# Altium schematic symbol library ST25RU3993_RF_MODULE.SCHLIB: 256 symbols (part 6 of 8)
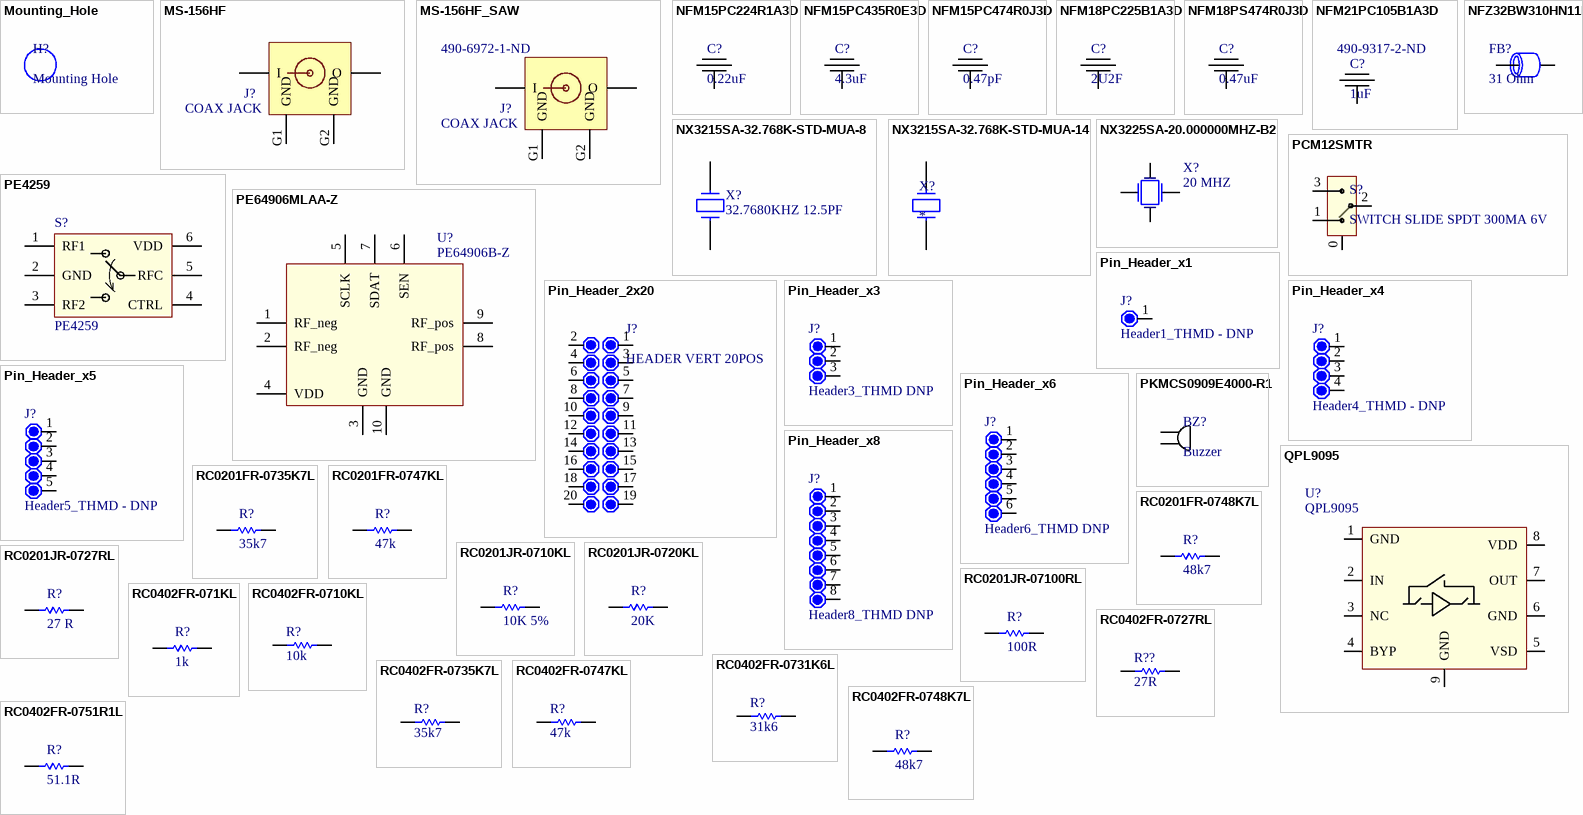
[diagram p11: symbols Mounting_Hole to RC0402FR-0751R1L]

## NFM15PC474R0J3D
designator C?, comment 0.47pF
CAP FEEDTHRU 0.47UF 6.3V 0402; Manufacturer: Murata Electronics North America; Manufacturer Part Number: NFM15PC474R0J3D; Tolerance: ±20%; DC Resistance (DCR) (Max): 30 mOhm; Power (Watts): 0.05W, 1/20W; Supplier 1: Digi-Key; Supplier Part Number 1: 490-16920-1-ND; RoHS: RoHS Compliant; Category: Filters; Stock: 2488; Pricing: 1=0.08, 10=0.052, 25=0.0504, 50=0.0486, 100=0.0471, 250=0.0446, 500=0.03732, 1000=0.02896, 5000=0.02596 (EUR); Packaging: Cut Tape (CT); Part Status: Active; Voltage - Rated: 6.3V; Operating Temperature: -55°C ~ 105°C; Insertion Loss: -; Temperature Coefficient: -; Ratings: -; Mounting Type: Surface Mount; Package / Case: 0402 (1005 Metric); Size / Dimension: 0.039" L x 0.020" W (1.00mm x 0.50mm); Height (Max): 0.020" (0.50mm); Thread Size: -; ComponentLink1URL: http://search.murata.co.jp/Ceramy/image/img/A01X/G101/ENG/NFM15PC474R0J3-01.pdf; ComponentLink1Description: http://search.murata.co.jp/Ceramy/image/img/A01X/G101/ENG/NFM15PC474R0J3-01.pdf; Supplier 2: Digi-Key; Supplier Part Number 2: 311-100NCT-ND; Composition: Thick Film; Features: Moisture Resistant; Supplier Device Package: 0201; Height - Seated (Max): 0.010" (0.26mm); Failure Rate: -; ComponentLink2URL: http://www.yageo.com/documents/recent/PYu-RC_Group_51_RoHS_L_9.pdf; ComponentLink2Description: http://www.yageo.com/documents/recent/PYu-RC_Group_51_RoHS_L_9.pdf
footprint NFM15PC (Feed Through Capacitor)
pins: 1, 2, 3

## NFM18PC225B1A3D
designator C?, comment 2U2F
CAP FEEDTHRU 2.2UF 20% 10V 0603; Manufacturer: Murata Electronics North America; Manufacturer Part Number: NFM18PC225B1A3D; Capacitance: 2.2µF; Current: 4A; DC Resistance (DCR) (Max): 10 mOhm; Supplier 1: Digi-Key; RoHS: RoHS Compliant; Category: Filters; Stock: 3361; Pricing 1: 1=0.25, 10=0.237, 25=0.2256, 50=0.2184, 100=0.2112, 250=0.20028, 500=0.1675, 1000=0.12999 (EUR); Packaging: Cut Tape (CT); Part Status: Active; Tolerance: ±20%; Voltage - Rated: 10V; Operating Temperature: -40°C ~ 85°C; Insertion Loss: -; Temperature Coefficient: -; Ratings: -; Mounting Type: Surface Mount; Package / Case: 0603 (1608 Metric), 3 PC Pad; Size / Dimension: 0.063" L x 0.031" W (1.60mm x 0.80mm); Height (Max): 0.028" (0.70mm); Thread Size: -; ComponentLink1URL: http://search.murata.co.jp/Ceramy/image/img/A01X/G101/ENG/NFM18PC225B1A3-01.pdf; ComponentLink1Description: http://search.murata.co.jp/Ceramy/image/img/A01X/G101/ENG/NFM18PC225B1A3-01.pdf; Supplier Part Number 1: 490-6972-1-ND
footprint NFM18PC (Feed Through Capacitor)
pins: 1, 2, 3

## NFM18PS474R0J3D
designator C?, comment 0.47uF
CAP FEEDTHRU 0.47UF 6.3V 0603; Manufacturer: Murata Electronics North America; Manufacturer Part Number: NFM18PS474R0J3D; Capacitance: 0.47µF; Tolerance: ±20%; Current: 2A; DC Resistance (DCR) (Max): 30 mOhm; Type: Polymer; ESR (Equivalent Series Resistance): 70 mOhm; Lifetime @ Temp.: 1000 Hrs @ 105°C; Ripple Current - High Frequency: 1A @ 100kHz; Surface Mount Land Size: 0.287" L x 0.169" W (7.30mm x 4.30mm); Supplier 1: Digi-Key; RoHS: RoHS Compliant; Category: Filters; Stock: 926; Pricing 1: 1=0.14, 10=0.132, 25=0.1264, 50=0.122, 100=0.1181, 250=0.11192, 500=0.09362, 1000=0.07267 (EUR); Packaging: Cut Tape (CT); Part Status: Active; Voltage - Rated: 6.3V; Operating Temperature: -55°C ~ 125°C; Insertion Loss: -; Temperature Coefficient: -; Ratings: -; Mounting Type: Surface Mount; Package / Case: 0603 (1608 Metric), 3 PC Pad; Size / Dimension: 0.063" L x 0.031" W (1.60mm x 0.80mm); Height (Max): 0.028" (0.70mm); Thread Size: -; ComponentLink1URL: http://search.murata.co.jp/Ceramy/image/img/A01X/G101/ENG/NFM18PS474R0J3-01.pdf; ComponentLink1Description: http://search.murata.co.jp/Ceramy/image/img/A01X/G101/ENG/NFM18PS474R0J3-01.pdf; Supplier Part Number 1: 490-6975-1-ND; Supplier 2: Digi-Key; Pricing 2: 1=1.25, 10=0.984, 100=0.7379, 500=0.55756, 1000=0.49196 (EUR); Applications: General Purpose; Ripple Current - Low Frequency: -; Lead Spacing: -; Height - Seated (Max): 0.075" (1.90mm); ComponentLink2URL: http://www.murata.com/~/media/webrenewal/support/library/catalog/products/capacitor/polymer/c90e.ashx; ComponentLink2Description: http://www.murata.com/~/media/webrenewal/support/library/catalog/products/capacitor/polymer/c90e.ashx; Supplier Part Number 2: 490-5481-1-ND; Supplier 3: Digi-Key; Supplier Part Number 3: 490-13393-1-ND; Pricing: 1=0.09, 10=0.08, 25=0.0756, 50=0.0734, 100=0.0709, 250=0.06728, 500=0.05626, 1000=0.04367, 5000=0.03915 (EUR); ComponentLink3URL: http://search.murata.co.jp/Ceramy/image/img/A01X/G101/ENG/NFM15PC435R0E3-01.pdf; ComponentLink3Description: http://search.murata.co.jp/Ceramy/image/img/A01X/G101/ENG/NFM15PC435R0E3-01.pdf
footprint NFM18PS (Feed Through Capacitor)
pins: 1, 2, 3

## NFM21PC105B1A3D
designator C?, comment 1uF  Supplier Part Number 4: 490-9317-2-ND
CAP FEEDTHRU 1UF 20% 10V 0805; Manufacturer: Murata Electronics North America; Manufacturer Part Number: NFM21PC105B1A3D; Capacitance: 1µF; Current: 4A; DC Resistance (DCR) (Max): 20 mOhm; Coupler Type: Standard; Frequency: 1.7GHz ~ 2.2GHz; Coupling Factor: 19.9dB; Power - Max: 2W; Return Loss: 22.5dB; Number of Lines: 1; Impedance @ Frequency: 31 Ohm @ 1MHz; Current Rating (Max): 1.2A; Supplier 1: Digi-Key; RoHS: RoHS Compliant; Category: Filters; Stock: 68166; Pricing 1: 1=0.19, 10=0.182, 25=0.1736, 50=0.168, 100=0.1624, 250=0.15396, 500=0.12878, 1000=0.09994 (EUR); Packaging: Cut Tape (CT); Part Status: Active; Tolerance: ±20%; Voltage - Rated: 10V; Operating Temperature: -40°C ~ 85°C; Insertion Loss: -; Temperature Coefficient: -; Ratings: -; Mounting Type: Surface Mount; Package / Case: 0805 (2012 Metric), 3 PC Pad; Size / Dimension: 0.079" L x 0.049" W (2.00mm x 1.25mm); Height (Max): 0.037" (0.95mm); Thread Size: -; ComponentLink1URL: http://search.murata.co.jp/Ceramy/image/img/A01X/G101/ENG/NFM21PC105B1A3-01.pdf; ComponentLink1Description: http://search.murata.co.jp/Ceramy/image/img/A01X/G101/ENG/NFM21PC105B1A3-01.pdf; Supplier Part Number 1: 490-6980-1-ND; Supplier 2: Digi-Key; Pricing 2: 1=0.19, 10=0.133, 100=0.0671, 500=0.0459, 1000=0.04061, 2500=0.03884, 5000=0.03531 (EUR); Features: Low ESL (Reverse Geometry); Applications: Bypass, Decoupling; Height - Seated (Max): -; Thickness (Max): 0.014" (0.35mm); Lead Spacing: -; Lead Style: -; ComponentLink2URL: http://www.murata.com/~/media/webrenewal/support/library/catalog/products/capacitor/mlcc/c02e.ashx; ComponentLink2Description: http://www.murata.com/~/media/webrenewal/support/library/catalog/products/capacitor/mlcc/c02e.ashx; Supplier Part Number 2: 490-4310-1-ND; Supplier 3: Digi-Key; Supplier Part Number 3: 1173-1088-1-ND; Pricing: 1=0.75, 10=0.663, 25=0.5988, 100=0.524, 250=0.45988, 500=0.4064 (EUR); Isolation: -; Supplier Device Package: 0805 (2012 Metric); ComponentLink3URL: https://www.anaren.com/sites/default/files/DC1722J5020AHF_Datasheet_RevC.pdf; ComponentLink3Description: https://www.anaren.com/sites/default/files/DC1722J5020AHF_Datasheet_RevC.pdf; Supplier 4: Digi-Key; Pricing 4: 2000=0.15448 (EUR); Filter Type: -; ComponentLink4URL: http://www.murata.com/en-us/products/productdata/8796734717982/ENFJ0003.pdf; ComponentLink4Description: http://www.murata.com/en-us/products/productdata/8796734717982/ENFJ0003.pdf
footprint NFM21PC (Feed Through Capacitor)
pins: 1, 2, 3

## NFZ32BW310HN11L
designator FB?, comment 31 Ohm
FERRITE BEAD 31 OHM 2SMD 1LN; Manufacturer: Murata Electronics North America; Manufacturer Part Number: NFZ32BW310HN11L; Current Rating (Max): 1.2A; DC Resistance (DCR) (Max): 186 mOhm; Supplier 1: Digi-Key; Supplier Part Number 1: 490-9317-1-ND; RoHS: RoHS Compliant; Category: Filters; Stock: 0; Pricing: 1=0 (EUR); Packaging: Cut Tape (CT); Part Status: Discontinued at Digi-Key; Filter Type: -; Ratings: -; Operating Temperature: -40°C ~ 125°C; Package / Case: 2-SMD, Flat Lead; Mounting Type: Surface Mount; Height (Max): 0.067" (1.70mm); Size / Dimension: 0.126" L x 0.098" W (3.20mm x 2.50mm); ComponentLink1URL: https://www.murata.com/en-us/products/productdata/8796734717982/ENFJ0003.pdf; ComponentLink1Description: https://www.murata.com/en-us/products/productdata/8796734717982/ENFJ0003.pdf
footprint NFZ32BW310HN11 (Chip Inductor, 2-Leads, Body 3.20x2.50mm, IPC Medium Density)
pins: 1, 2

## NX3215SA-32.768K-STD-MUA-8
designator X?, comment 32.7680KHZ 12.5PF
CRYSTAL 32.7680KHZ 12.5PF SMD; Manufacturer 1: NDK; Manufacturer Part Number 1: NX3215SA-32.768K-STD-MUA-8; Frequency: 32.768kHz; Frequency Tolerance: ±20ppm; ESR (Equivalent Series Resistance): 70 kOhm; Operating Mode: Fundamental; Millicandela Rating: 18mcd; Exact Component Match: yes; Supplier 1: Digi-Key; Supplier Part Number 1: 644-1156-2-ND; RoHS: RoHS Compliant; Category: Crystals, Oscillators, Resonators; Stock 1: 39000; Pricing 1: 3000=0.43075, 6000=0.41589, 15000=0.40104 (EUR); Packaging: Tape & Reel (TR); Part Status: Active; Type: kHz Crystal (Tuning Fork); Frequency Stability: -; Load Capacitance: 12.5pF; Operating Temperature: -40°C ~ 85°C; Ratings: -; Mounting Type: Surface Mount; Size / Dimension: 0.126" L x 0.059" W (3.20mm x 1.50mm); Height: 0.035" (0.90mm); ComponentLink1URL: http://www.ndk.com/images/products/catalog/c_NX3215SA-STD-MUA-14_e.pdf; ComponentLink1Description: http://www.ndk.com/images/products/catalog/c_NX3215SA-STD-MUA-14_e.pdf; Color: Blue; Features: -; Supplier Device Package: 0402 (1005 Metric); Height (Max): 0.25mm; Manufacturer: NDK; Manufacturer Part Number: NX3215SA-32.768K-STD-MUA-8
footprint NX3215SA-32.768K-STD-MUA-8 (g 32,768kHz, ±20ppm Kristall, 12,5pF, 70 kOhm)
pins: 1, 2

## NX3215SA-32.768K-STD-MUA-14
designator X?
CRYSTAL 32.7680KHZ 6PF SMD; Manufacturer: NDK America, Inc.; Manufacturer Part Number: NX3215SA-32.768K-STD-MUA-14; Frequency: 32.768kHz; Frequency Tolerance: ±20ppm; ESR (Equivalent Series Resistance): 70 kOhm; Operating Mode: Fundamental; Supplier 1: Digi-Key; Supplier Part Number 1: 644-1171-1-ND; RoHS: RoHS Compliant; Category: Crystals, Oscillators, Resonators; Stock: 41587; Pricing: 1=0.8, 10=0.709, 50=0.6624, 100=0.5854, 500=0.5546, 1000=0.46217 (EUR); Packaging: Cut Tape (CT); Part Status: Active; Type: kHz Crystal (Tuning Fork); Frequency Stability: -; Load Capacitance: 6pF; Operating Temperature: -40°C ~ 85°C; Ratings: -; Mounting Type: Surface Mount; Package / Case: 2-SMD, No Lead; Size / Dimension: 0.126" L x 0.059" W (3.20mm x 1.50mm); Height - Seated (Max): 0.035" (0.90mm); ComponentLink1URL: http://www.ndk.com/images/products/catalog/c_NX3215SA-STD-MUA-14_e.pdf; ComponentLink1Description: http://www.ndk.com/images/products/catalog/c_NX3215SA-STD-MUA-14_e.pdf
footprint NX3215SA-32.768K-STD-MUA-8 (g 32,768kHz, ±20ppm Kristall, 12,5pF, 70 kOhm)
pins: 1, 2

## NX3225SA-20.000000MHZ-B2
designator X?, comment 20 MHZ
CRYSTAL 20.0000MHZ 7.2PF SMD; Manufacturer: NDK; Manufacturer Part Number: NX3225SA-20.000000MHZ-B2; Frequency: 20MHz; Frequency Stability: ±15ppm; Frequency Tolerance: ±10ppm; ESR (Equivalent Series Resistance): 80 Ohm; Operating Mode: Fundamental; Supplier 1: Digi-Key; Supplier Part Number 1: 644-1098-1-ND; RoHS: RoHS Compliant; Category: Crystals, Oscillators, Resonators; Stock 1: 1453; Pricing 1: 1=0.88, 10=0.779, 50=0.7286, 100=0.6439, 500=0.61002, 1000=0.50836 (EUR); Packaging: Cut Tape (CT); Part Status: Active; Type: MHz Crystal; Load Capacitance: 7.2pF; Operating Temperature: -30°C ~ 85°C; Ratings: -; Mounting Type: Surface Mount; Package / Case: 4-SMD, No Lead; Size / Dimension: 0.126" L x 0.098" W (3.20mm x 2.50mm); Height - Seated (Max): 0.028" (0.70mm); ComponentLink1URL: http://media.digikey.com/pdf/Data%20Sheets/NDK%20PDFs/NX3225SA-20.000000MHz-B2.pdf; ComponentLink1Description: http://media.digikey.com/pdf/Data%20Sheets/NDK%20PDFs/NX3225SA-20.000000MHz-B2.pdf
footprint NX3225SA (20 MHz Crystal Oscillator)
pins: 1, 2 GND, 3, 4 GND

## PCM12SMTR
designator S?, comment SWITCH SLIDE SPDT 300MA 6V
C & K COMPONENTS         PCM12SMTR             Slide Switch, SPDT, On-On, SMD, PCM Series, 300 mA; Manufacturer: ITT C&K; Mechanical Life: 10000Cycles; Actuator Material: Nylon,Polyamide; Contact Resistance: 70mR; Insulation Resistance: 100mR; Switch Travel: 1.5mm; Actuator Type: Standard; Supplier 1: Digi-Key; Supplier Part Number 1: 401-2016-1-ND; Manufacturer Part Number: PCM12SMTR; Stock: 53689; Pricing: 1=0.91, 10=0.87, 25=0.8524, 50=0.7616, 100=0.7253, 250=0.7072, 500=0.5984, 1000=0.5803 (USD); RoHS: Yes; Mount: Surface Mount; Contact Material: Copper,Copper Alloy,Silver; Contact Plating: Silver; Min Operating Temperature: -20°C; Max Operating Temperature: 85°C; Throw Configuration: SPDT; Max Voltage Rating (DC): 6V; Termination: Gull Wing; Voltage Rating (AC): 6V; Package Quantity: 1; Packaging: Tape and Reel; Voltage Rating (DC): 6V; Max Current Rating: 300mA; Contact Current Rating: 300mA; Current Rating: 300mA; Orientation: Right Angle; Switch Function: On-On; Length: 7.7mm; Width: 6.7mm; Depth: 5mm; Actuator Length: 1.5mm; REACH SVHC: No SVHC; Lead Free: Lead Free; ComponentLink1URL: https://www.ckswitches.com/media/1424/pcm.pdf?src-supplier=Digi-Key; ComponentLink1Description: https://www.ckswitches.com/media/1424/pcm.pdf?src-supplier=Digi-Key; ComponentLink2URL: https://products.avnet.com/shop/en/asia/switches-and-relays/switches/slide-switch/www.ckswitches.com/media/1424/pcm.pdf?src-supplier=Avnet+Asia; ComponentLink2Description: https://products.avnet.com/shop/en/asia/switches-and-relays/switches/slide-switch/www.ckswitches.com/media/1424/pcm.pdf?src-supplier=Avnet+Asia; ComponentLink3URL: http://www1.futureelectronics.com/doc/C%20&%20K%20COMPONENTS/PCM12SMTR.pdf?src-supplier=Future+Electronics; ComponentLink3Description: http://www1.futureelectronics.com/doc/C%20&%20K%20COMPONENTS/PCM12SMTR.pdf?src-supplier=Future+Electronics; ComponentLink4URL: http://www.farnell.com/datasheets/1789487.pdf?src-supplier=Onlinecomponents.com; ComponentLink4Description: http://www.farnell.com/datasheets/1789487.pdf?src-supplier=Onlinecomponents.com; ComponentLink5URL: http://www.farnell.com/datasheets/1789487.pdf?src-supplier=Element14; ComponentLink5Description: http://www.farnell.com/datasheets/1789487.pdf?src-supplier=Element14; ComponentLink6URL: http://www.farnell.com/datasheets/1789487.pdf?src-supplier=Mouser; ComponentLink6Description: http://www.farnell.com/datasheets/1789487.pdf?src-supplier=Mouser
footprint SW_PCM12SMTR
pins: 0, 1, 2, 3

## PE4259
designator S?
IC RF SWITCH SPDT 50 OHM SC70-6; Manufacturer: Peregrine Semiconductor; Manufacturer Part Number: 4259-63; Frequency - Lower: 10MHz; Frequency - Upper: 3GHz; Isolation @ Frequency: 20dB @ 2GHz (typ); Insertion Loss @ Frequency: 0.5dB @ 2GHz; IIP3: 55dBm (typ); Topology: Reflective; P1dB: 29dBm (typ) IP1dB; Impedance: 50 Ohm; Voltage - Supply: 1.8 V ~ 3.3 V; RF Type: General Purpose; Supplier 1: Digi-Key; RoHS: RoHS Compliant; Category: RF/IF and RFID; Stock: 341453; Pricing 1: 1=0.61, 250=0.49088 (EUR); Packaging: Cut Tape (CT); Part Status: Active; Circuit: SPDT; Features: Single/Dual Line Control; Operating Temperature: -40°C ~ 85°C; Package / Case: 6-TSSOP, SC-88, SOT-363; Supplier Device Package: SC-70-6; ComponentLink1URL: http://www.psemi.com/pdf/datasheets/pe4259ds.pdf; ComponentLink1Description: http://www.psemi.com/pdf/datasheets/pe4259ds.pdf; Supplier Part Number 1: 1046-1011-1-ND
footprint PE4259 (SPDT High Power UltraCMOS DC – 3.0 GHz RF Switch)
pins: 1 RF1, 2 GND, 3 RF2, 4 CTRL, 5 RFC, 6 VDD
1 alternate drawing of the same symbol

## PE64906MLAA-Z
designator U?, comment PE64906B-Z
IC RF DTC 100-3000MHZ 10QFN; Manufacturer: Peregrine Semiconductor; Function: Digitally Tunable Capacitor; Frequency: 100MHz ~ 3GHz; RF Type: General Purpose; Secondary Attributes: SPI Interface; Exact Component Match: yes; Frequency - Lower: 500MHz; Isolation @ Frequency: 20dB @ 5.8GHz (typ); Insertion Loss @ Frequency: 0.8dB @ 5.8GHz; IIP3: 57dBm (typ); Circuit: SPDT; P1dB: 36dBm; Impedance: 50 Ohm; Voltage - Supply: 2.5 V ~ 5 V; Manufacturer Part Number: PE64906B-Z; RoHS: RoHS Compliant; Category: RF/IF and RFID; Packaging: Cut Tape (CT); Package / Case: 10-UFQFN Exposed Pad; ComponentLink1URL: http://www.psemi.com/pdf/datasheets/pe64906ds.pdf; ComponentLink1Description: http://www.psemi.com/pdf/datasheets/pe64906ds.pdf; Topology: -; Features: -; Operating Temperature: -40°C ~ 85°C; ComponentLink2URL: http://www.skyworksinc.com/uploads/documents/SKY13431_374LF_201649C.pdf; ComponentLink2Description: http://www.skyworksinc.com/uploads/documents/SKY13431_374LF_201649C.pdf
footprint PE62304 (Digitally Tunable Capacitor for GSM/WCDMA)
pins: 1 RF_neg, 2 RF_neg, 3 GND, 4 VDD, 5 SCLK, 6 SEN, 7 SDAT, 8 RF_pos, 9 RF_pos, 10 GND

## Pin_Header_2x20
designator J?, comment HEADER VERT 20POS
CONN HEADER VERT 20POS GOLD; Manufacturer: On Shore Technology Inc.; Manufacturer Part Number: 302-S201; Pitch - Mating: 0.100" (2.54mm); Number of Positions: 20; Number of Positions Loaded: All; Style: Board to Cable/Wire; Shrouding: Shrouded - 4 Wall; Contact Length - Post: 0.122" (3.10mm); Material Flammability Rating: UL94 V-0; Current Rating: 3A; Voltage Rating: 250V; Supplier 1: Digi-Key; Supplier Part Number 1: ED10524-ND; RoHS: RoHS Compliant; Category: Connectors, Interconnects; Stock: 57534; Pricing: 1=0.41, 10=0.392, 160=0.27425, 640=0.23503, 1120=0.19587, 5120=0.16788, 10080=0.15669 (EUR); Packaging: Tray; Part Status: Active; Connector Type: Header; Contact Type: Male Pin; Number of Rows: 2; Row Spacing - Mating: 0.100" (2.54mm); Mounting Type: Through Hole; Termination: Solder; Fastening Type: Push-Pull; Contact Length - Mating: -; Overall Contact Length: -; Insulation Height: 0.358" (9.10mm); Contact Shape: Square; Contact Finish - Mating: Gold; Contact Finish Thickness - Mating: Flash; Contact Finish - Post: Gold; Contact Material: Brass; Insulation Material: Polyester, Glass Filled; Features: Keying Slot; Operating Temperature: -40°C ~ 105°C; Ingress Protection: -; Insulation Color: Black; Mated Stacking Heights: -; Contact Finish Thickness - Post: 1.25µin (0.032µm); Applications: -; ComponentLink1URL: http://www.on-shore.com/wp-content/uploads/2018/04/302-SXX1.pdf; ComponentLink1Description: http://www.on-shore.com/wp-content/uploads/2018/04/302-SXX1.pdf
footprint Model Name (Footprint not found)
footprint PLUG_THMD_STRIP_2X10
pins: 1, 2, 3, 4, 5, 6, 7, 8, 9, 10, 11, 12, 13, 14, 15, 16, 17, 18, 19, 20

## Pin_Header_x1
designator J?, comment Header1_THMD - DNP
Pin_Header_x1; Manufacturer: Wurth Electronics Inc.; Manufacturer Part Number: 61300211121; Connector Type: Header; Pitch - Mating: 0.100" (2.54mm); Number of Positions: 2; Number of Positions Loaded: All; Style: Board to Board or Cable; Shrouding: Unshrouded; Contact Length - Mating: 0.236" (6.00mm); Contact Length - Post: 0.118" (3.00mm); Overall Contact Length: 0.454" (11.54mm); Material Flammability Rating: UL94 V-0; Current Rating: 3A; Voltage Rating: 250V; Supplier 1: Digi-Key; Supplier Part Number 1: 732-5315-ND; RoHS: RoHS Compliant; Category: Connectors, Interconnects; Stock: 78407; Pricing: 1=0.12, 10=0.095, 25=0.0788, 50=0.0662, 100=0.06, 1000=0.05462 (EUR); Packaging: Bulk; Part Status: Active; Contact Type: Male Pin; Number of Rows: 1; Row Spacing - Mating: -; Mounting Type: Through Hole; Termination: Solder; Fastening Type: Push-Pull; Insulation Height: 0.100" (2.54mm); Contact Shape: Square; Contact Finish - Mating: Gold; Contact Finish Thickness - Mating: -; Contact Finish - Post: -; Contact Material: Copper Alloy; Insulation Material: Polybutylene Terephthalate (PBT); Features: -; Operating Temperature: -40°C ~ 125°C; Ingress Protection: -; Insulation Color: Black; Mated Stacking Heights: -; Contact Finish Thickness - Post: -; Applications: -; ComponentLink1URL: http://katalog.we-online.de/em/datasheet/6130xx11121.pdf; ComponentLink1Description: http://katalog.we-online.de/em/datasheet/6130xx11121.pdf
footprint PLUG_THMD_STRIP1
footprint PLUG_THMD_STRIP1 - 90°
footprint PLUG_THMD_STRIP1
pins: 1

## Pin_Header_x3
designator J?, comment Header3_THMD DNP
Pin_Header_x3; Manufacturer: Wurth Electronics Inc.; Manufacturer Part Number: 61300311121; Connector Type: Header; Pitch - Mating: 0.100" (2.54mm); Number of Positions: 3; Number of Positions Loaded: All; Style: Board to Board or Cable; Shrouding: Unshrouded; Contact Length - Mating: 0.236" (6.00mm); Contact Length - Post: 0.118" (3.00mm); Overall Contact Length: 0.454" (11.54mm); Material Flammability Rating: UL94 V-0; Current Rating: 3A; Voltage Rating: 250V; Supplier 1: Digi-Key; Supplier Part Number 1: 732-5316-ND; RoHS: RoHS Compliant; Category: Connectors, Interconnects; Stock: 35601; Pricing: 1=0.12, 10=0.095, 25=0.0788, 50=0.0662, 100=0.06, 1000=0.05462 (EUR); Packaging: Bulk; Part Status: Active; Contact Type: Male Pin; Number of Rows: 1; Row Spacing - Mating: -; Mounting Type: Through Hole; Termination: Solder; Fastening Type: Push-Pull; Insulation Height: 0.100" (2.54mm); Contact Shape: Square; Contact Finish - Mating: Gold; Contact Finish Thickness - Mating: -; Contact Finish - Post: -; Contact Material: Copper Alloy; Insulation Material: Polybutylene Terephthalate (PBT); Features: -; Operating Temperature: -40°C ~ 125°C; Ingress Protection: -; Insulation Color: Black; Mated Stacking Heights: -; Contact Finish Thickness - Post: -; Applications: -; ComponentLink1URL: http://katalog.we-online.de/em/datasheet/6130xx11121.pdf; ComponentLink1Description: http://katalog.we-online.de/em/datasheet/6130xx11121.pdf
footprint PLUG_THMD_STRIP3
footprint PLUG_THMD_STRIP3 - 90°
footprint PLUG_THMD_STRIP3
pins: 1, 2, 3

## Pin_Header_x4
designator J?, comment Header4_THMD - DNP
Pin_Header_x4; Manufacturer: TE Connectivity AMP Connectors; Manufacturer Part Number: 3-644456-4; Connector Type: Header; Pitch - Mating: 0.100" (2.54mm); Number of Positions: 4; Number of Positions Loaded: All; Style: Board to Cable/Wire; Shrouding: Unshrouded; Contact Length - Mating: 0.295" (7.49mm); Contact Length - Post: 0.110" (2.79mm); Overall Contact Length: 0.505" (12.83mm); Material Flammability Rating: UL94 V-0; Current Rating: Varies by Wire Gauge; Voltage Rating: 250VAC; Supplier 1: Digi-Key; Supplier Part Number 1: A31114-ND; RoHS: RoHS Compliant; Category: Connectors, Interconnects; Stock: 4288; Pricing: 1=0.24, 10=0.23, 100=0.161, 500=0.13806, 1000=0.11504, 5000=0.09861, 10000=0.09203 (EUR); Packaging: Bulk; Part Status: Active; Contact Type: Male Pin; Number of Rows: 1; Row Spacing - Mating: -; Mounting Type: Through Hole; Termination: Solder; Fastening Type: -; Insulation Height: 0.100" (2.54mm); Contact Shape: Square; Contact Finish - Mating: Tin; Contact Finish Thickness - Mating: 150µin (3.81µm); Contact Finish - Post: Tin; Contact Material: Copper Alloy; Insulation Material: Thermoplastic; Features: -; Operating Temperature: -55°C ~ 105°C; Ingress Protection: -; Insulation Color: Natural; Mated Stacking Heights: -; Contact Finish Thickness - Post: 150µin (3.81µm); Applications: General Purpose; ComponentLink1URL: http://www.te.com/commerce/DocumentDelivery/DDEController?Action=srchrtrv&DocNm=644456&DocType=Customer+Drawing&DocLang=English; ComponentLink1Description: http://www.te.com/commerce/DocumentDelivery/DDEController?Action=srchrtrv&DocNm=644456&DocType=Customer+Drawing&DocLang=English
footprint PLUG_THMD_STRIP4 - 2rows
footprint PLUG_THMD_STRIP4 - 2rows-90°
footprint PLUG_THMD_STRIP4
footprint PLUG_THMD_STRIP4 - 90°
footprint PLUG_THMD_STRIP4 - 2rows_FEMALE_BOT (FEMALE BOTTOM MOUNT - silk Top)
pins: 1, 2, 3, 4

## Pin_Header_x5
designator J?, comment Header5_THMD - DNP
Pin_Header_x5
footprint PLUG_THMD_STRIP5
footprint PLUG_THMD_STRIP5 - 90°
footprint PLUG_THMD_STRIP5_FEMALE_BOT (FEMALE BOTTOM MOUNT - silk Top)
pins: 1, 2, 3, 4, 5

## Pin_Header_x6
designator J?, comment Header6_THMD DNP
Pin_Header_x6; Manufacturer: Amphenol FCI; Manufacturer Part Number: 68000-406HLF; Connector Type: Header; Pitch - Mating: 0.100" (2.54mm); Style: Board to Board; Shrouding: Unshrouded; Number of Positions: 6; Number of Positions Loaded: All; Contact Length - Mating: 0.230" (5.84mm); Contact Length - Post: 0.095" (2.41mm); Overall Contact Length: 0.425" (10.80mm); Material Flammability Rating: UL94 V-0; Supplier 1: Digi-Key; Supplier Part Number 1: 609-3263-ND; RoHS: RoHS Compliant; Category: Connectors, Interconnects; Stock: 22083; Pricing: 1=0.21, 10=0.198, 100=0.1371, 500=0.11596, 1000=0.09488, 5000=0.08434, 10000=0.07643 (EUR); Packaging: Bulk; Part Status: Active; Contact Type: Male Pin; Number of Rows: 1; Row Spacing - Mating: -; Mounting Type: Through Hole; Termination: Solder; Fastening Type: Push-Pull; Insulation Height: 0.100" (2.54mm); Contact Shape: Square; Contact Finish - Mating: Tin; Contact Finish Thickness - Mating: 100µin (2.54µm); Contact Finish - Post: Tin; Contact Material: Phosphor Bronze; Insulation Material: -; Features: -; Operating Temperature: -; Ingress Protection: -; Insulation Color: Black; Current Rating: -; Voltage Rating: -; Mated Stacking Heights: -; Contact Finish Thickness - Post: -; Applications: -; ComponentLink1URL: http://portal.fciconnect.com/Comergent//fci/drawing/68000.pdf; ComponentLink1Description: http://portal.fciconnect.com/Comergent//fci/drawing/68000.pdf
footprint PLUG_THMD_STRIP6
footprint PLUG_THMD_STRIP6 - 2rows
footprint PLUG_THMD_STRIP6 - 2rows-90°
footprint PLUG_THMD_STRIP6 - 90°
footprint PLUG_THMD_STRIP6
pins: 1, 2, 3, 4, 5, 6

## Pin_Header_x8
designator J?, comment Header8_THMD DNP
Pin_Header_x8; Manufacturer: TE Connectivity AMP Connectors; Manufacturer Part Number: 3-644456-8; Connector Type: Header; Pitch - Mating: 0.100" (2.54mm); Number of Positions: 8; Number of Positions Loaded: All; Style: Board to Cable/Wire; Shrouding: Unshrouded; Contact Length - Mating: 0.295" (7.49mm); Contact Length - Post: 0.110" (2.79mm); Overall Contact Length: 0.505" (12.83mm); Material Flammability Rating: UL94 V-0; Current Rating: Varies by Wire Gauge; Voltage Rating: 250VAC; Supplier 1: Digi-Key; Supplier Part Number 1: A31118-ND; RoHS: RoHS Compliant; Category: Connectors, Interconnects; Stock: 4691; Pricing: 1=0.42, 10=0.394, 100=0.3024, 500=0.26296, 1000=0.21694, 5000=0.19064, 10000=0.17749 (EUR); Packaging: Bulk; Part Status: Active; Contact Type: Male Pin; Number of Rows: 1; Row Spacing - Mating: -; Mounting Type: Through Hole; Termination: Solder; Fastening Type: -; Insulation Height: 0.100" (2.54mm); Contact Shape: Square; Contact Finish - Mating: Tin; Contact Finish Thickness - Mating: 150µin (3.81µm); Contact Finish - Post: Tin; Contact Material: Copper Alloy; Insulation Material: Thermoplastic; Features: -; Operating Temperature: -55°C ~ 105°C; Ingress Protection: -; Insulation Color: Natural; Mated Stacking Heights: -; Contact Finish Thickness - Post: 150µin (3.81µm); Applications: General Purpose; ComponentLink1URL: http://www.te.com/commerce/DocumentDelivery/DDEController?Action=srchrtrv&DocNm=644456&DocType=Customer+Drawing&DocLang=English; ComponentLink1Description: http://www.te.com/commerce/DocumentDelivery/DDEController?Action=srchrtrv&DocNm=644456&DocType=Customer+Drawing&DocLang=English; Supplier 2: Digi-Key; Supplier Part Number 2: ED10524-ND; ComponentLink2URL: http://www.on-shore.com/wp-content/uploads/2018/04/302-SXX1.pdf; ComponentLink2Description: http://www.on-shore.com/wp-content/uploads/2018/04/302-SXX1.pdf
footprint PLUG_THMD_STRIP8
footprint PLUG_THMD_STRIP6 - 2rows
footprint PLUG_THMD_STRIP6 - 2rows-90°
footprint PLUG_THMD_STRIP6 - 90°
footprint PLUG_THMD_STRIP8
pins: 1, 2, 3, 4, 5, 6, 7, 8

## PKMCS0909E4000-R1
designator BZ?, comment Buzzer
AUDIO PIEZO TRANSDUCER 12.5V SMD; Manufacturer: Murata Electronics North America; Manufacturer Part Number: PKMCS0909E4000-R1; Driver Circuitry: Transducer, Externally Driven; Input Type: Zero-Peak Signal; Voltage - Rated: 1.5V; Voltage Range: 12.5V (Max); Frequency: 4kHz; Operating Mode: Single Tone; Sound Pressure Level (SPL): 65dB @ 1.5V, 10cm; Port Location: Side; Supplier 1: Digi-Key; Supplier Part Number 1: 490-9647-1-ND; RoHS: RoHS Compliant; Category: Audio Products; Stock: 15302; Pricing: 1=1.66, 10=1.45, 25=1.1276, 50=1.02, 100=0.9127, 250=0.88584, 500=0.85898, 1000=0.77846 (EUR); Packaging: Cut Tape (CT); Part Status: Active; Technology: Piezo; Duration: -; Current - Supply: -; Operating Temperature: -40°C ~ 85°C; Approvals: -; Ratings: -; Mounting Type: Surface Mount; Termination: Solder Pads; Size / Dimension: 0.354" L x 0.354" W (9.00mm x 9.00mm); Height - Seated (Max): 0.118" (3.00mm); ComponentLink1URL: http://www.murata.com/~/media/webrenewal/products/sound/sounder/vppt-buzj083-d.ashx; ComponentLink1Description: http://www.murata.com/~/media/webrenewal/products/sound/sounder/vppt-buzj083-d.ashx
footprint PKMCS0909E Series (Murata Sounder)
pins: 1, 2

## QPL9095
designator U?
.7-1.0GHz Ultra Low-Noise, Bypass LNA; Manufacturer: Qorvo; Supplier 1: RFMW; Supplier Part Number 1: QPL9095; Manufacturer Part Number: QPL9095; Stock: 0; Pricing: 250=3.41 ($)
footprint QPL9095 (Ultra Low-Noise, Bypass LNA)
pins: 1 GND, 2 IN, 3 NC, 4 BYP, 5 VSD, 6 GND, 7 OUT, 8 VDD, 9 GND

## RC0201FR-0735K7L
designator R?, comment 35k7
RES SMD 35.7K OHM 1% 1/20W 0201; Manufacturer: Yageo; Manufacturer Part Number: RC0201FR-0735K7L; Power (Watts): 0.05W, 1/20W; Temperature Coefficient: ±200ppm/°C; Supplier 1: Digi-Key; Supplier Part Number 1: YAG2619CT-ND; RoHS: RoHS Compliant; Category: Resistors; Stock: 13095; Pricing: 1=0.08, 10=0.037, 100=0.0151, 1000=0.00678, 2500=0.00588, 5000=0.00486 (EUR); Packaging: Cut Tape (CT); Part Status: Active; Tolerance: ±1%; Composition: Thick Film; Features: Moisture Resistant; Operating Temperature: -55°C ~ 125°C; Package / Case: 0201 (0603 Metric); Supplier Device Package: 0201; Size / Dimension: 0.024" L x 0.012" W (0.60mm x 0.30mm); Height - Seated (Max): 0.010" (0.26mm); Failure Rate: -; ComponentLink1URL: http://www.yageo.com/documents/recent/PYu-RC_Group_51_RoHS_L_9.pdf; ComponentLink1Description: http://www.yageo.com/documents/recent/PYu-RC_Group_51_RoHS_L_9.pdf
footprint R0201-RF
pins: 1, 2

## RC0201FR-0747KL
designator R?, comment 47k
RES SMD 47K OHM 1% 1/20W 0201, RC Series; Manufacturer: Vishay Dale; Manufacturer Part Number: CRCW02015K60FKED; Resistance: 5.6kR; Max Power Dissipation: 50mW; Temperature Coefficient: 100ppm/°C; Voltage Rating: 30V; Supplier 1: Digi-Key; Supplier Part Number 1: 541-5.60KAABDKR-ND; Stock: 9370; Pricing: 1=0.24, 10=0.202, 100=0.0791, 1000=0.03311, 2500=0.03035, 5000=0.02842 (USD); Case/Package: 0201; Weight: 6E-06oz; Case Code (Metric): 0603; Case Code (Imperial): 0201; Contact Plating: Tin; Min Operating Temperature: -55°C; Max Operating Temperature: 155°C; Package Quantity: 1; Tolerance: 1%; Packaging: Tape and Reel; Composition: Thick Film; Number of Terminations: 2; Power Rating: 50mW; Military Standard: Not; Length: 0.6mm; Height: 0.011inch; Width: 0.012inch; Depth: 0.3mm; Lead Free: Lead Free; ComponentLink1URL: http://www.vishay.com/docs/20052/crcw0201e3.pdf; ComponentLink1Description: http://www.vishay.com/docs/20052/crcw0201e3.pdf
footprint R0201-RF
pins: 1, 2

## RC0201FR-0748K7L
designator R?, comment 48k7
RES SMD 48.7K OHM 1% 1/20W 0201; Manufacturer: Yageo; Manufacturer Part Number: RC0201FR-0748K7L; Power (Watts): 0.05W, 1/20W; Temperature Coefficient: ±200ppm/°C; Supplier 1: Digi-Key; Supplier Part Number 1: YAG2697CT-ND; RoHS: RoHS Compliant; Category: Resistors; Stock: 52420; Pricing: 1=0.08, 10=0.037, 100=0.0151, 1000=0.00678, 2500=0.00588, 5000=0.00486 (EUR); Packaging: Cut Tape (CT); Part Status: Active; Tolerance: ±1%; Composition: Thick Film; Features: Moisture Resistant; Operating Temperature: -55°C ~ 125°C; Package / Case: 0201 (0603 Metric); Supplier Device Package: 0201; Size / Dimension: 0.024" L x 0.012" W (0.60mm x 0.30mm); Height - Seated (Max): 0.010" (0.26mm); Failure Rate: -; ComponentLink1URL: http://www.yageo.com/documents/recent/PYu-RC_Group_51_RoHS_L_9.pdf; ComponentLink1Description: http://www.yageo.com/documents/recent/PYu-RC_Group_51_RoHS_L_9.pdf
footprint R0201-RF
pins: 1, 2

## RC0201JR-0710KL
designator R?, comment 10K 5%
RES SMD 10K OHM 5% 1/20W 0201; Manufacturer: Yageo; Manufacturer Part Number: RC0201JR-0710KL; Power (Watts): 0.05W, 1/20W; Temperature Coefficient: ±200ppm/°C; Supplier 1: Digi-Key; Supplier Part Number 1: 311-10KNCT-ND; RoHS: RoHS Compliant; Category: Resistors; Stock: 1872646; Pricing: 1=0.08, 10=0.035, 100=0.014, 1000=0.00629, 2500=0.00546, 5000=0.00451 (EUR); Packaging: Cut Tape (CT); Part Status: Active; Tolerance: ±5%; Composition: Thick Film; Features: Moisture Resistant; Operating Temperature: -55°C ~ 125°C; Package / Case: 0201 (0603 Metric); Supplier Device Package: 0201; Size / Dimension: 0.024" L x 0.012" W (0.60mm x 0.30mm); Height - Seated (Max): 0.010" (0.26mm); Failure Rate: -; ComponentLink1URL: http://www.yageo.com/documents/recent/PYu-RC_Group_51_RoHS_L_9.pdf; ComponentLink1Description: http://www.yageo.com/documents/recent/PYu-RC_Group_51_RoHS_L_9.pdf
footprint R0201-RF
pins: 1, 2

## RC0201JR-0720KL
designator R?, comment 20K
RES SMD 20K OHM 5% 1/20W 0201; Manufacturer: Yageo; Manufacturer Part Number: RC0201JR-0720KL; Power (Watts): 0.05W, 1/20W; Temperature Coefficient: ±200ppm/°C; Supplier 1: Digi-Key; Supplier Part Number 1: 311-20KNCT-ND; RoHS: RoHS Compliant; Category: Resistors; Stock: 279828; Pricing: 1=0.09, 10=0.026, 100=0.0104, 1000=0.00469, 2500=0.00407, 5000=0.00336 (EUR); Packaging: Cut Tape (CT); Part Status: Active; Tolerance: ±5%; Composition: Thick Film; Features: Moisture Resistant; Operating Temperature: -55°C ~ 125°C; Package / Case: 0201 (0603 Metric); Supplier Device Package: 0201; Size / Dimension: 0.024" L x 0.012" W (0.60mm x 0.30mm); Height - Seated (Max): 0.010" (0.26mm); Failure Rate: -; ComponentLink1URL: http://www.yageo.com/documents/recent/PYu-RC_Group_51_RoHS_L_10.pdf; ComponentLink1Description: http://www.yageo.com/documents/recent/PYu-RC_Group_51_RoHS_L_10.pdf
footprint R0201-RF
pins: 1, 2

## RC0201JR-0727RL
designator R?, comment 27 R
RES SMD 27 OHM 5% 1/20W 0201; Manufacturer: Yageo; Manufacturer Part Number: RC0201JR-0727RL; Resistance: 27R; Temperature Coefficient: 200ppm/°C; Max Power Dissipation: 50mW; Supplier 1: Digi-Key; Supplier Part Number 1: YAG2291CT-ND; Stock: 4225; Pricing: 1=0.1, 10=0.032, 100=0.0132, 1000=0.00591, 2500=0.00513, 5000=0.00424 (USD); Case/Package: 0201; Case Code (Metric): 0603; Case Code (Imperial): 0201; Contact Plating: Tin,Matte; Min Operating Temperature: -55°C; Max Operating Temperature: 125°C; Packaging: Tape and Reel; Tolerance: 5%; Composition: Thick Film; Number of Terminations: 2; Package Quantity: 10000; Power Rating: 50mW; Length: 0.024inch; Height: 0.01inch; Width: 0.012inch; Radiation Hardening: No; Lead Free: Lead Free; ComponentLink1URL: https://datasheet.ciiva.com/28401/pyu-rc0201-51-rohs-l-8-28401384.pdf; ComponentLink1Description: https://datasheet.ciiva.com/28401/pyu-rc0201-51-rohs-l-8-28401384.pdf; ComponentLink2URL: https://datasheet.ciiva.com/8889/pyu-rc0201-51-rohs-l-8-8889868.pdf; ComponentLink2Description: https://datasheet.ciiva.com/8889/pyu-rc0201-51-rohs-l-8-8889868.pdf; ComponentLink3URL: https://datasheet.ciiva.com/16855/pyu-rc0201-51-rohs-l-8-16855356.pdf; ComponentLink3Description: https://datasheet.ciiva.com/16855/pyu-rc0201-51-rohs-l-8-16855356.pdf
footprint R0201-RF
pins: 1, 2

## RC0201JR-07100RL
designator R?, comment 100R
RES SMD 100 OHM 5% 1/20W 0201; Manufacturer: Yageo; Manufacturer Part Number: RC0201JR-07100RL; Power (Watts): 0.05W, 1/20W; Temperature Coefficient: ±200ppm/°C; Supplier 1: Digi-Key; Supplier Part Number 1: 311-100NCT-ND; RoHS: RoHS Compliant; Category: Resistors; Stock: 778931; Pricing: 1=0.08, 10=0.035, 100=0.014, 1000=0.00629, 2500=0.00546, 5000=0.00451 (EUR); Packaging: Cut Tape (CT); Part Status: Active; Tolerance: ±5%; Composition: Thick Film; Features: Moisture Resistant; Operating Temperature: -55°C ~ 125°C; Package / Case: 0201 (0603 Metric); Supplier Device Package: 0201; Size / Dimension: 0.024" L x 0.012" W (0.60mm x 0.30mm); Height - Seated (Max): 0.010" (0.26mm); Failure Rate: -; ComponentLink1URL: http://www.yageo.com/documents/recent/PYu-RC_Group_51_RoHS_L_9.pdf; ComponentLink1Description: http://www.yageo.com/documents/recent/PYu-RC_Group_51_RoHS_L_9.pdf
footprint R0201-RF
pins: 1, 2

## RC0402FR-071KL
designator R?, comment 1k
RES SMD 1K OHM 1% 1/16W 0402; Manufacturer: Yageo; Manufacturer Part Number: RC0402FR-071KL; Power (Watts): 0.063W, 1/16W; Temperature Coefficient: ±100ppm/°C; Supplier 1: Digi-Key; Supplier Part Number 1: 311-1.00KLRCT-ND; RoHS: RoHS Compliant; Category: Resistors; Stock: 15498315; Pricing: 1=0.08, 10=0.012, 100=0.0048, 1000=0.00215, 2500=0.00186, 5000=0.00154 (EUR); Packaging: Cut Tape (CT); Part Status: Active; Tolerance: ±1%; Composition: Thick Film; Features: Moisture Resistant; Operating Temperature: -55°C ~ 155°C; Package / Case: 0402 (1005 Metric); Supplier Device Package: 0402; Size / Dimension: 0.039" L x 0.020" W (1.00mm x 0.50mm); Height - Seated (Max): 0.016" (0.40mm); Failure Rate: -; ComponentLink1URL: http://www.yageo.com/documents/recent/PYu-RC_Group_51_RoHS_L_7.pdf; ComponentLink1Description: http://www.yageo.com/documents/recent/PYu-RC_Group_51_RoHS_L_7.pdf
footprint R0402-RF
pins: 1, 2

## RC0402FR-0710KL
designator R?, comment 10k
RES SMD 10K OHM 1% 1/16W 0402; Manufacturer 1: Yageo; Manufacturer Part Number 1: RC0402FR-0710KL; Power (Watts): 0.063W, 1/16W; Temperature Coefficient: ±100ppm/°C; Exact Component Match: no; Supplier 1: Digi-Key; Supplier Part Number 1: 311-10.0KLRCT-ND; RoHS: RoHS Compliant; Category: Resistors; Stock 1: 12117181; Pricing 1: 1=0.09, 10=0.012, 25=0.0088, 100=0.0049, 250=0.00372, 500=0.00296, 1000=0.00218, 2500=0.00189, 5000=0.00156 (EUR); Packaging: Cut Tape (CT); Part Status: Active; Resistance (Ohms): 10k; Tolerance: ±1%; Composition: Thick Film; Features: Moisture Resistant; Operating Temperature: -55°C ~ 155°C; Package / Case: 0402 (1005 Metric); Supplier Device Package: 0402; Size / Dimension: 0.039" L x 0.020" W (1.00mm x 0.50mm); Height - Seated (Max): 0.016" (0.40mm); Number of Terminations: 2; Failure Rate: -; ComponentLink1URL: http://www.yageo.com/NewPortal/yageodocoutput?fileName=/pdf/R-Chip/PYu-RC_Group_51_RoHS_L_4.pdf; ComponentLink1Description: http://www.yageo.com/NewPortal/yageodocoutput?fileName=/pdf/R-Chip/PYu-RC_Group_51_RoHS_L_4.pdf; Manufacturer: Yageo; Manufacturer Part Number: RC0402FR-0710KL
footprint R0402-RF
pins: 1, 2

## RC0402FR-0727RL
designator R??, comment 27R
RES SMD 27 OHM 1% 1/16W 0402; Manufacturer: Yageo; Manufacturer Part Number: RC0402FR-0727RL; Resistance (Ohms): 27; Power (Watts): 0.063W, 1/16W; Temperature Coefficient: ±100ppm/°C; Supplier 1: Digi-Key; Supplier Part Number 1: YAG3086CT-ND; RoHS: RoHS Compliant; Category: Resistors; Stock 1: 205075; Pricing 1: 1=0.1, 10=0.012, 25=0.0084, 50=0.0064, 100=0.0046, 250=0.00352, 500=0.00284, 1000=0.00208, 5000=0.0015 (EUR); Packaging: Cut Tape (CT); Part Status: Active; Tolerance: ±1%; Composition: Thick Film; Features: Moisture Resistant; Operating Temperature: -55°C ~ 155°C; Package / Case: 0402 (1005 Metric); Supplier Device Package: 0402; Size / Dimension: 0.039" L x 0.020" W (1.00mm x 0.50mm); Height - Seated (Max): 0.016" (0.40mm); Number of Terminations: 2; Failure Rate: -; ComponentLink1URL: http://www.yageo.com/NewPortal/yageodocoutput?fileName=/pdf/R-Chip/PYu-RC_Group_51_RoHS_L_4.pdf; ComponentLink1Description: http://www.yageo.com/NewPortal/yageodocoutput?fileName=/pdf/R-Chip/PYu-RC_Group_51_RoHS_L_4.pdf
footprint R0402-RF
pins: 1, 2

## RC0402FR-0731K6L
designator R?, comment 31k6
RES SMD 31.6K OHM 1% 1/16W 0402; Manufacturer: Yageo; Manufacturer Part Number: RC0402FR-0731K6L; Power (Watts): 0.063W, 1/16W; Temperature Coefficient: ±100ppm/°C; Supplier 1: Digi-Key; Supplier Part Number 1: YAG3115CT-ND; RoHS: RoHS Compliant; Category: Resistors; Stock 1: 309831; Pricing 1: 1=0.1, 10=0.012, 25=0.0084, 50=0.0064, 100=0.0046, 250=0.00352, 500=0.00284, 1000=0.00208, 5000=0.0015 (EUR); Packaging: Cut Tape (CT); Part Status: Active; Resistance (Ohms): 31.6k; Tolerance: ±1%; Composition: Thick Film; Features: Moisture Resistant; Operating Temperature: -55°C ~ 155°C; Package / Case: 0402 (1005 Metric); Supplier Device Package: 0402; Size / Dimension: 0.039" L x 0.020" W (1.00mm x 0.50mm); Height - Seated (Max): 0.016" (0.40mm); Number of Terminations: 2; Failure Rate: -; ComponentLink1URL: http://www.yageo.com/NewPortal/yageodocoutput?fileName=/pdf/R-Chip/PYu-RC_Group_51_RoHS_L_4.pdf; ComponentLink1Description: http://www.yageo.com/NewPortal/yageodocoutput?fileName=/pdf/R-Chip/PYu-RC_Group_51_RoHS_L_4.pdf
footprint R0402-RF
pins: 1, 2

## RC0402FR-0735K7L
designator R?, comment 35k7
RES SMD 35.7K OHM 1% 1/16W 0402; Manufacturer: Yageo; Manufacturer Part Number: RC0402FR-0735K7L; Power (Watts): 0.063W, 1/16W; Temperature Coefficient: ±100ppm/°C; Supplier 1: Digi-Key; Supplier Part Number 1: 311-35.7KLRCT-ND; RoHS: RoHS Compliant; Category: Resistors; Stock: 107019; Pricing: 1=0.08, 10=0.012, 100=0.0047, 1000=0.00212, 2500=0.00184, 5000=0.00152 (EUR); Packaging: Cut Tape (CT); Part Status: Active; Tolerance: ±1%; Composition: Thick Film; Features: Moisture Resistant; Operating Temperature: -55°C ~ 155°C; Package / Case: 0402 (1005 Metric); Supplier Device Package: 0402; Size / Dimension: 0.039" L x 0.020" W (1.00mm x 0.50mm); Height - Seated (Max): 0.016" (0.40mm); Failure Rate: -; ComponentLink1URL: http://www.yageo.com/documents/recent/PYu-RC_Group_51_RoHS_L_8.pdf; ComponentLink1Description: http://www.yageo.com/documents/recent/PYu-RC_Group_51_RoHS_L_8.pdf
footprint R0402-RF
pins: 1, 2

## RC0402FR-0747KL
designator R?, comment 47k
RES SMD 47K OHM 1% 1/16W 0402; Manufacturer 1: Yageo; Manufacturer Part Number 1: RC0402FR-0747KL; Power (Watts): 0.063W, 1/16W; Temperature Coefficient: ±100ppm/°C; Exact Component Match: no; Supplier 1: Digi-Key; Supplier Part Number 1: 311-47.0KLRCT-ND; RoHS: RoHS Compliant; Category: Resistors; Stock 1: 2403458; Pricing 1: 1=0.09, 10=0.012, 25=0.0088, 100=0.0049, 250=0.00372, 500=0.00296, 1000=0.00218, 2500=0.00189, 5000=0.00156 (EUR); Packaging: Cut Tape (CT); Part Status: Active; Resistance (Ohms): 47k; Tolerance: ±1%; Composition: Thick Film; Features: Moisture Resistant; Operating Temperature: -55°C ~ 155°C; Package / Case: 0402 (1005 Metric); Supplier Device Package: 0402; Size / Dimension: 0.039" L x 0.020" W (1.00mm x 0.50mm); Height - Seated (Max): 0.016" (0.40mm); Number of Terminations: 2; Failure Rate: -; ComponentLink1URL: http://www.yageo.com/NewPortal/yageodocoutput?fileName=/pdf/R-Chip/PYu-RC_Group_51_RoHS_L_4.pdf; ComponentLink1Description: http://www.yageo.com/NewPortal/yageodocoutput?fileName=/pdf/R-Chip/PYu-RC_Group_51_RoHS_L_4.pdf; Manufacturer: Yageo; Manufacturer Part Number: RC0402FR-0747KL
footprint R0402-RF
pins: 1, 2

## RC0402FR-0748K7L
designator R?, comment 48k7
RES SMD 48.7K OHM 1% 1/16W 0402; Manufacturer: Yageo; Manufacturer Part Number: RC0402FR-0748K7L; Power (Watts): 0.063W, 1/16W; Temperature Coefficient: ±100ppm/°C; Supplier 1: Digi-Key; RoHS: RoHS Compliant; Category: Resistors; Stock: 136438; Pricing 1: 1=0.08, 10=0.012, 100=0.0047, 1000=0.0021, 2500=0.00182, 5000=0.0015 (EUR); Packaging: Cut Tape (CT); Part Status: Active; Tolerance: ±1%; Composition: Thick Film; Features: Moisture Resistant; Operating Temperature: -55°C ~ 155°C; Package / Case: 0402 (1005 Metric); Supplier Device Package: 0402; Size / Dimension: 0.039" L x 0.020" W (1.00mm x 0.50mm); Height - Seated (Max): 0.016" (0.40mm); Failure Rate: -; ComponentLink1URL: http://www.yageo.com/documents/recent/PYu-RC_Group_51_RoHS_L_7.pdf; ComponentLink1Description: http://www.yageo.com/documents/recent/PYu-RC_Group_51_RoHS_L_7.pdf; Supplier Part Number 1: YAG3169CT-ND
footprint R0402-RF
pins: 1, 2

## RC0402FR-0751R1L
designator R?, comment 51.1R
RES SMD 51.1 OHM 1% 1/16W 0402; Manufacturer: Yageo; Manufacturer Part Number: RC0402FR-0751R1L; Power (Watts): 0.063W, 1/16W; Temperature Coefficient: ±100ppm/°C; Supplier 1: Digi-Key; Supplier Part Number 1: 311-51.1LRCT-ND; RoHS: RoHS Compliant; Category: Resistors; Stock: 237958; Pricing: 1=0.08, 10=0.012, 100=0.0048, 1000=0.00215, 2500=0.00186, 5000=0.00154 (EUR); Packaging: Cut Tape (CT); Part Status: Active; Tolerance: ±1%; Composition: Thick Film; Features: Moisture Resistant; Operating Temperature: -55°C ~ 155°C; Package / Case: 0402 (1005 Metric); Supplier Device Package: 0402; Size / Dimension: 0.039" L x 0.020" W (1.00mm x 0.50mm); Height - Seated (Max): 0.016" (0.40mm); Failure Rate: -; ComponentLink1URL: http://www.yageo.com/documents/recent/PYu-RC_Group_51_RoHS_L_7.pdf; ComponentLink1Description: http://www.yageo.com/documents/recent/PYu-RC_Group_51_RoHS_L_7.pdf
footprint R0402-RF
pins: 1, 2

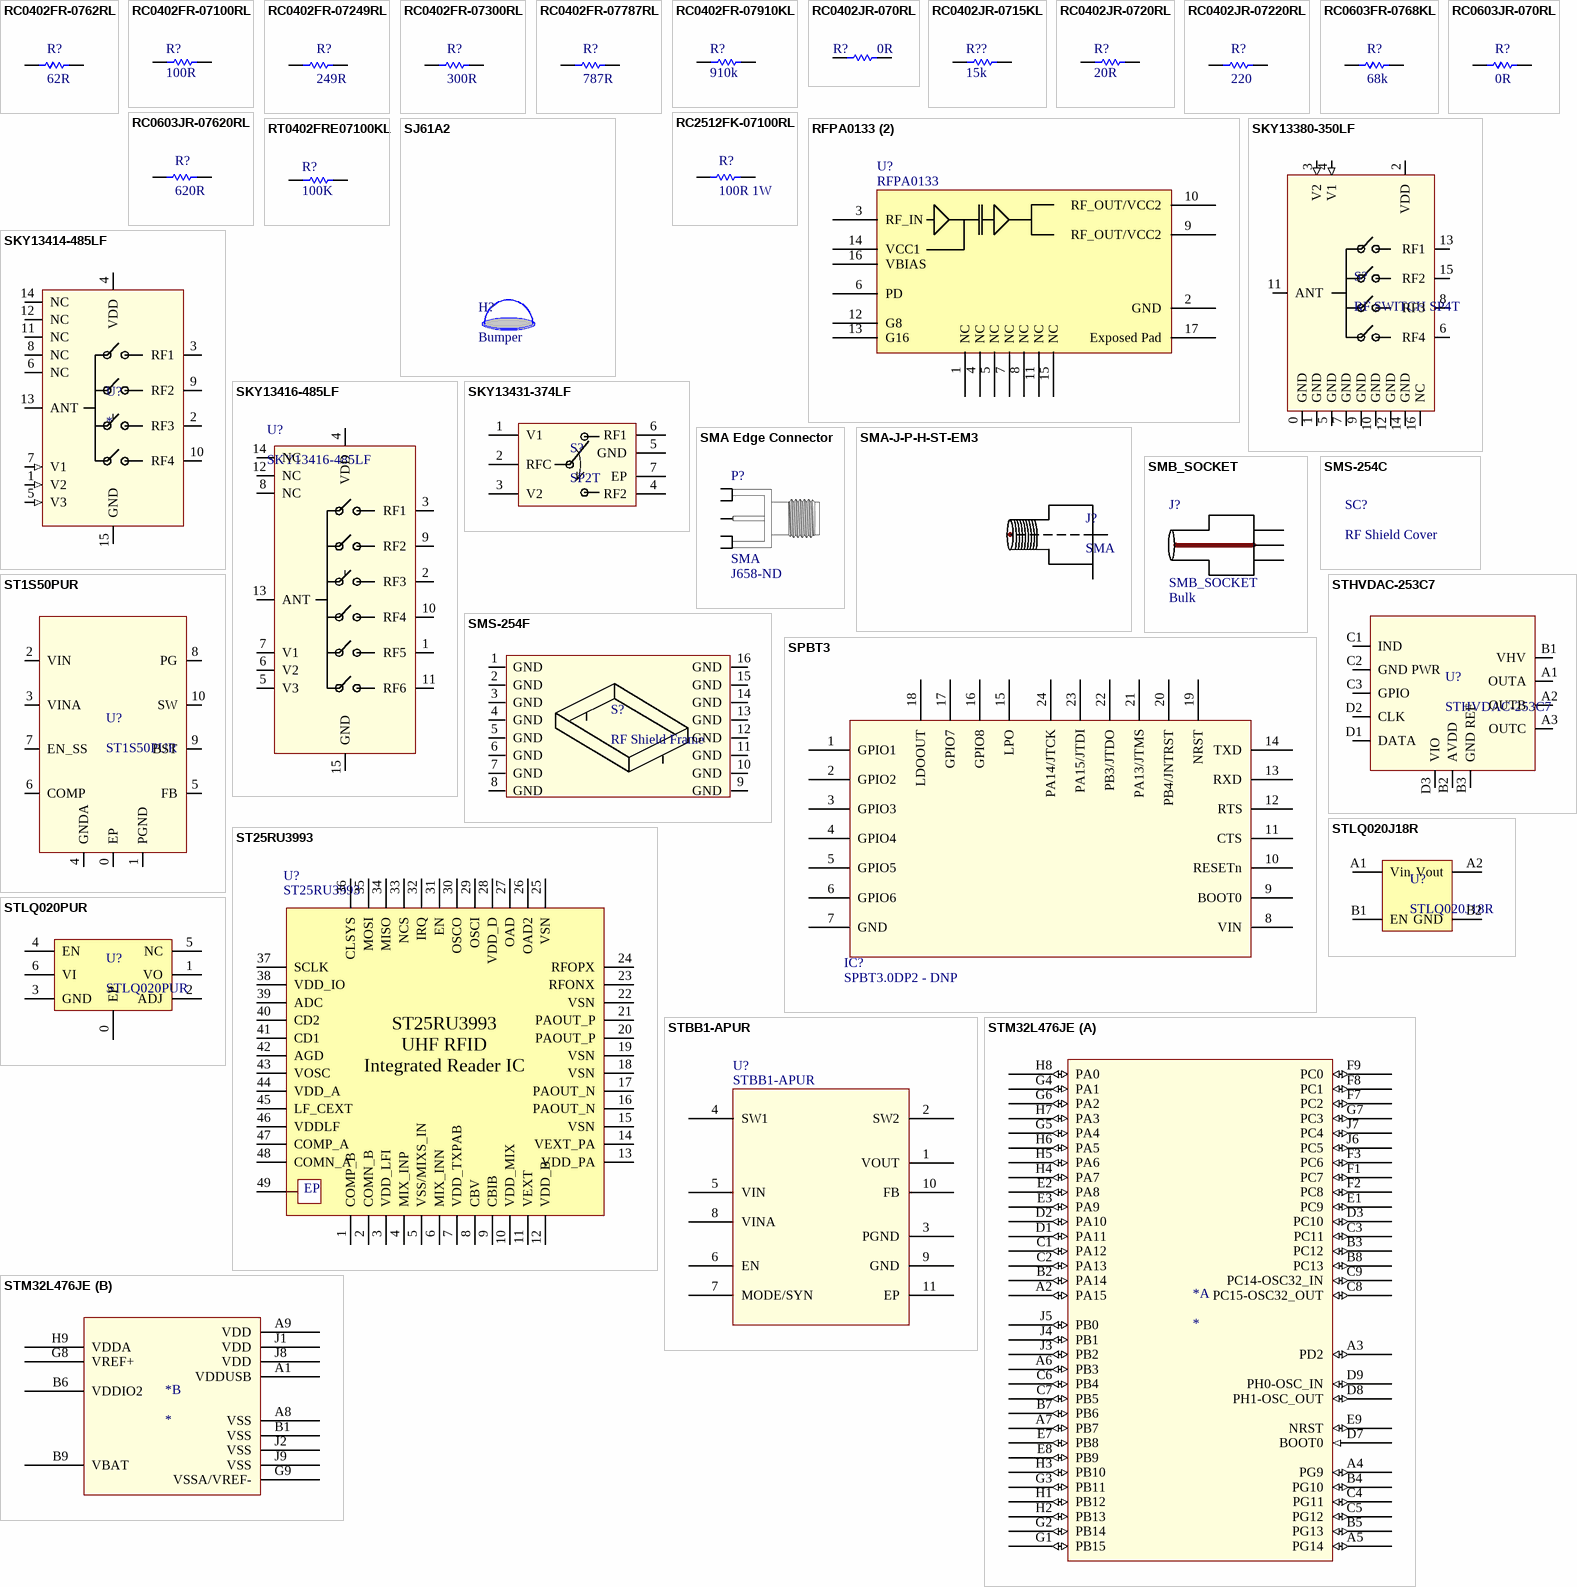
[diagram p5: symbols RC0402FR-0762RL to STM32L476JE]

## RC0402FR-0762RL
designator R?, comment 62R
RES SMD 62 OHM 1% 1/16W 0402; Manufacturer: Yageo; Manufacturer Part Number: RC0402FR-0762RL; Power (Watts): 0.063W, 1/16W; Temperature Coefficient: ±100ppm/°C; Supplier 1: Digi-Key; Supplier Part Number 1: 311-62.0LRCT-ND; RoHS: RoHS Compliant; Category: Resistors; Stock: 191216; Pricing: 1=0.08, 10=0.012, 100=0.0048, 1000=0.00215, 2500=0.00186, 5000=0.00154 (EUR); Packaging: Cut Tape (CT); Part Status: Active; Tolerance: ±1%; Composition: Thick Film; Features: Moisture Resistant; Operating Temperature: -55°C ~ 155°C; Package / Case: 0402 (1005 Metric); Supplier Device Package: 0402; Size / Dimension: 0.039" L x 0.020" W (1.00mm x 0.50mm); Height - Seated (Max): 0.016" (0.40mm); Failure Rate: -; ComponentLink1URL: http://www.yageo.com/documents/recent/PYu-RC_Group_51_RoHS_L_7.pdf; ComponentLink1Description: http://www.yageo.com/documents/recent/PYu-RC_Group_51_RoHS_L_7.pdf
footprint R0402-RF
pins: 1, 2

## RC0402FR-07100RL
designator R?, comment 100R
RES SMD 100 OHM 1% 1/16W 0402; Manufacturer: Yageo; Manufacturer Part Number: RC0402FR-07100RL; Resistance (Ohms): 100; Power (Watts): 0.063W, 1/16W; Temperature Coefficient: ±100ppm/°C; Exact Component Match: no; Supplier 1: Digi-Key; Supplier Part Number 1: 311-100LRCT-ND; RoHS: RoHS Compliant; Category: Resistors; Stock 1: 1895343; Pricing 1: 1=0.09, 10=0.012, 25=0.0088, 100=0.0049, 250=0.00372, 500=0.00296, 1000=0.00218, 2500=0.00189, 5000=0.00156 (EUR); Packaging: Cut Tape (CT); Part Status: Active; Tolerance: ±1%; Composition: Thick Film; Features: Moisture Resistant; Operating Temperature: -55°C ~ 155°C; Package / Case: 0402 (1005 Metric); Supplier Device Package: 0402; Size / Dimension: 0.039" L x 0.020" W (1.00mm x 0.50mm); Height - Seated (Max): 0.016" (0.40mm); Number of Terminations: 2; Failure Rate: -; ComponentLink1URL: http://www.yageo.com/NewPortal/yageodocoutput?fileName=/pdf/R-Chip/PYu-RC_Group_51_RoHS_L_4.pdf; ComponentLink1Description: http://www.yageo.com/NewPortal/yageodocoutput?fileName=/pdf/R-Chip/PYu-RC_Group_51_RoHS_L_4.pdf; Manufacturer 1: Yageo; Manufacturer Part Number 1: RC0402FR-07100RL
footprint R0402-RF
pins: 1, 2

## RC0402FR-07249RL
designator R?, comment 249R
RES SMD 249 OHM 1% 1/16W 0402; Manufacturer: Yageo; Manufacturer Part Number: RC0402FR-07249RL; Power (Watts): 0.063W, 1/16W; Temperature Coefficient: ±100ppm/°C; Supplier 1: Digi-Key; Supplier Part Number 1: 311-249LRCT-ND; RoHS: RoHS Compliant; Category: Resistors; Stock: 376482; Pricing: 1=0.08, 10=0.012, 100=0.0048, 1000=0.00215, 2500=0.00186, 5000=0.00154 (EUR); Packaging: Cut Tape (CT); Part Status: Active; Tolerance: ±1%; Composition: Thick Film; Features: Moisture Resistant; Operating Temperature: -55°C ~ 155°C; Package / Case: 0402 (1005 Metric); Supplier Device Package: 0402; Size / Dimension: 0.039" L x 0.020" W (1.00mm x 0.50mm); Height - Seated (Max): 0.016" (0.40mm); Failure Rate: -; ComponentLink1URL: http://www.yageo.com/documents/recent/PYu-RC_Group_51_RoHS_L_7.pdf; ComponentLink1Description: http://www.yageo.com/documents/recent/PYu-RC_Group_51_RoHS_L_7.pdf
footprint R0402-RF
pins: 1, 2

## RC0402FR-07300RL
designator R?, comment 300R
RES SMD 300 OHM 1% 1/16W 0402; Manufacturer: Yageo; Manufacturer Part Number: RC0402FR-07300RL; Power (Watts): 0.063W, 1/16W; Temperature Coefficient: ±100ppm/°C; Supplier 1: Digi-Key; RoHS: RoHS Compliant; Category: Resistors; Stock: 393768; Pricing 1: 1=0.08, 10=0.012, 100=0.0048, 1000=0.00215, 2500=0.00186, 5000=0.00154 (EUR); Packaging: Cut Tape (CT); Part Status: Active; Tolerance: ±1%; Composition: Thick Film; Features: Moisture Resistant; Operating Temperature: -55°C ~ 155°C; Package / Case: 0402 (1005 Metric); Supplier Device Package: 0402; Size / Dimension: 0.039" L x 0.020" W (1.00mm x 0.50mm); Height - Seated (Max): 0.016" (0.40mm); Failure Rate: -; ComponentLink1URL: http://www.yageo.com/documents/recent/PYu-RC_Group_51_RoHS_L_7.pdf; ComponentLink1Description: http://www.yageo.com/documents/recent/PYu-RC_Group_51_RoHS_L_7.pdf; Supplier Part Number 1: 311-300LRCT-ND
footprint R0402-RF
pins: 1, 2

## RC0402FR-07787RL
designator R?, comment 787R
RES SMD 787 OHM 1% 1/16W 0402; Manufacturer: Yageo; Manufacturer Part Number: RC0402FR-07787RL; Power (Watts): 0.063W, 1/16W; Temperature Coefficient: ±100ppm/°C; Supplier 1: Digi-Key; Supplier Part Number 1: YAG3233CT-ND; RoHS: RoHS Compliant; Category: Resistors; Stock: 74914; Pricing: 1=0.08, 10=0.012, 100=0.0047, 1000=0.0021, 2500=0.00182, 5000=0.0015 (EUR); Packaging: Cut Tape (CT); Part Status: Active; Tolerance: ±1%; Composition: Thick Film; Features: Moisture Resistant; Operating Temperature: -55°C ~ 155°C; Package / Case: 0402 (1005 Metric); Supplier Device Package: 0402; Size / Dimension: 0.039" L x 0.020" W (1.00mm x 0.50mm); Height - Seated (Max): 0.016" (0.40mm); Failure Rate: -; ComponentLink1URL: http://www.yageo.com/documents/recent/PYu-RC_Group_51_RoHS_L_7.pdf; ComponentLink1Description: http://www.yageo.com/documents/recent/PYu-RC_Group_51_RoHS_L_7.pdf
footprint R0402-RF
pins: 1, 2